# EAGLE library part MUSBRM1C130 (library MUSBRM1C130)
Rugged USB Type C, Input Output Connector, IP67, Right Angle, Unified Thread, no dust cover Source: Datasheet <https://cdn.amphenol-cs.com/media/wysiwyg/files/documentation/datasheet/inputoutput/io_harsh_musb-type-c.pdf>
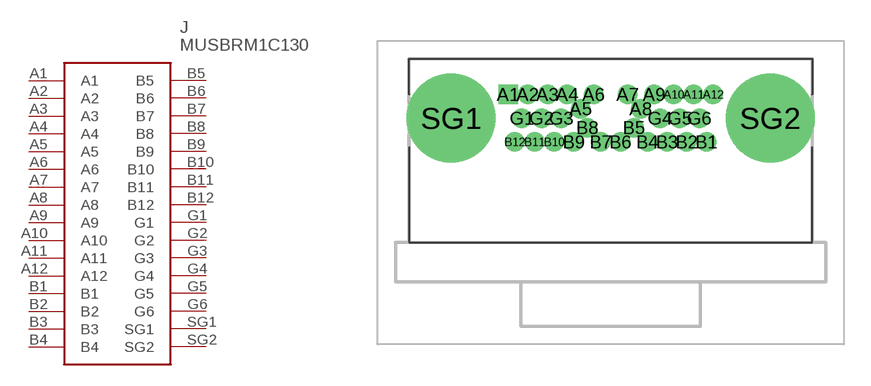
[diagram p0: symbol with the pads of MUSBRM1C130; footprint MUSBRM1C130]

Designator prefix J

## MUSBRM1C130 (Description: Rugged USB Type C, Input Output Connector, IP67, Right Angle, Unified Thread, no dust cover; Height: 6.15mm; Manufacturer_Name: Amphenol Communications Solutions; Manufacturer_Part_Number: MUSBRM1C130; Mouser_Part_Number: 523-MUSBRM1C130; Mouser_Price-Stock: https://www.mouser.co.uk/ProductDetail/Amphenol-Commercial-Products/MUSBRM1C130?qs=r%2FmwOkjQ8uu%252BqSoLlGgWuA%3D%3D)  [MUSBRM1C130]
A1  A1
A2  A2
A3  A3
A4  A4
A5  A5
A6  A6
A7  A7
A8  A8
A9  A9
A10  A10
A11  A11
A12  A12
B1  B1
B2  B2
B3  B3
B4  B4
B5  B5
B6  B6
B7  B7
B8  B8
B9  B9
B10  B10
B11  B11
B12  B12
G1  G1
G2  G2
G3  G3
G4  G4
G5  G5
G6  G6
SG1  SG1
SG2  SG2

## Footprint MUSBRM1C130 (pad centres in mm)
MUSBRM1C130-3
drill 0.58 pad 0.98 square: A1 0,0
drill 0.58 pad 0.98: A2 1.1,0; A3 2.2,0; A4 3.3,0; A5 4.05,-0.8; A6 4.775,0; A7 6.675,0; A8 7.4,-0.8; A9 8.15,0; A10 9.25,0; A11 10.35,0; A12 11.45,0; B1 11.075,-2.65; B2 9.975,-2.65; B3 8.875,-2.65; B4 7.775,-2.65; B5 7.025,-1.85; B6 6.275,-2.65; B7 5.175,-2.65; B8 4.425,-1.85; B9 3.675,-2.65; B10 2.575,-2.65; B11 1.475,-2.65; B12 0.375,-2.65; G1 0.775,-1.325; G2 1.875,-1.325; G3 2.975,-1.325; G4 8.475,-1.325; G5 9.575,-1.325; G6 10.675,-1.325
drill 3.305 pad 4.957: SG1 -3.175,-1.325; SG2 14.625,-1.325